# EAGLE library part DCF77-ANT (library MyComponents)
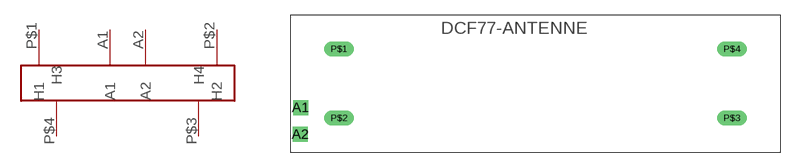
[diagram p3: symbol with the pads of DCF77-ANT; footprint DCF77-ANT]

Designator prefix -

## DCF77-ANT  [DCF77-ANT]
A1  A1
A2  A2
P$1  H1
P$2  H2
P$3  H4
P$4  H3

## Footprint DCF77-ANT (pad centres in mm)
drill 1.016 square: A1 -23.94,-2.465; A2 -23.96,-5.195
drill 1.016 long: P$1 -20.02,3.52; P$2 -20.02,-3.52; P$3 20.02,-3.52; P$4 20.02,3.52